# EAGLE library part MRA403 (library MRA403)
Rotary Switches 4P 3 POSITION SHAFT ACTUATOR PC NO KNOB Source: Datasheet <https://www.nkkswitches.eu/products/Rotaries/Rotaries MR/MRA206-A/>
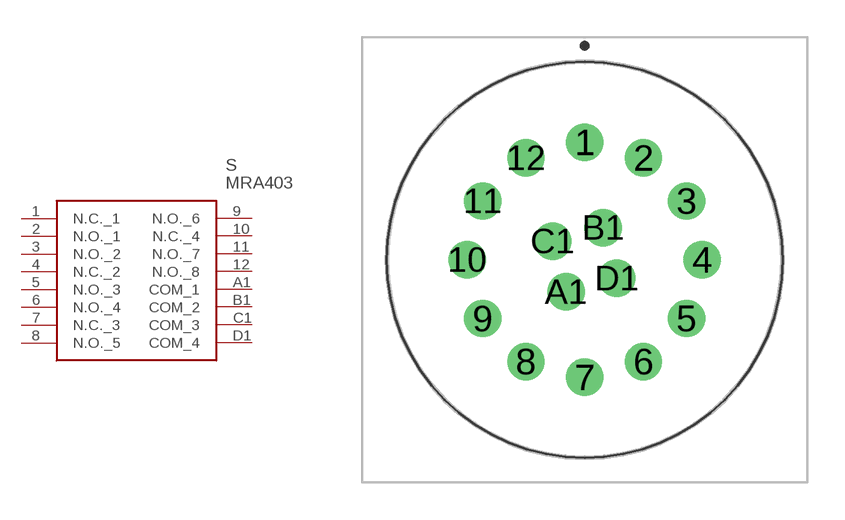
[diagram p0: symbol with the pads of MRA403; footprint MRA403]

Designator prefix S

## MRA403 (Description: Rotary Switches 4P 3 POSITION SHAFT ACTUATOR PC NO KNOB; Height: 32mm; Manufacturer_Name: NKK Switches; Manufacturer_Part_Number: MRA403; Mouser_Part_Number: 633-MRA403; Mouser_Price-Stock: https://www.mouser.com/Search/Refine.aspx?Keyword=633-MRA403)  [MRA403]
1  N.C._1
2  N.O._1
3  N.O._2
4  N.C._2
5  N.O._3
6  N.O._4
7  N.C._3
8  N.O._5
9  N.O._6
10  N.C._4
11  N.O._7
12  N.O._8
A1  COM_1
B1  COM_2
C1  COM_3
D1  COM_4

## Footprint MRA403 (pad centres in mm)
MRA403
drill 1 pad 1.5: 1 0,4.75; 2 2.375,4.114; 3 4.114,2.375; 4 4.75,0; 5 4.114,-2.375; 6 2.375,-4.114; 7 0,-4.75; 8 -2.375,-4.114; 9 -4.114,-2.375; 10 -4.75,0; 11 -4.114,2.375; 12 -2.375,4.114; A1 -0.75,-1.299; B1 0.75,1.299; C1 -1.299,0.75; D1 1.299,-0.75